# Altium footprint library SULLINS_SBH11-PBPC-D20-RA-BK.PcbLib: 1 footprints
Each footprint in its own frame and in the unit in brackets; x right, y up, seen from the top. Pads: shape width x height; smd on the part's side, far side on the other; paste and mask are expansions set on the pad; w line width, h text height; cw(c..) or ccw(c..) is an arc to the next point about the centre after c.
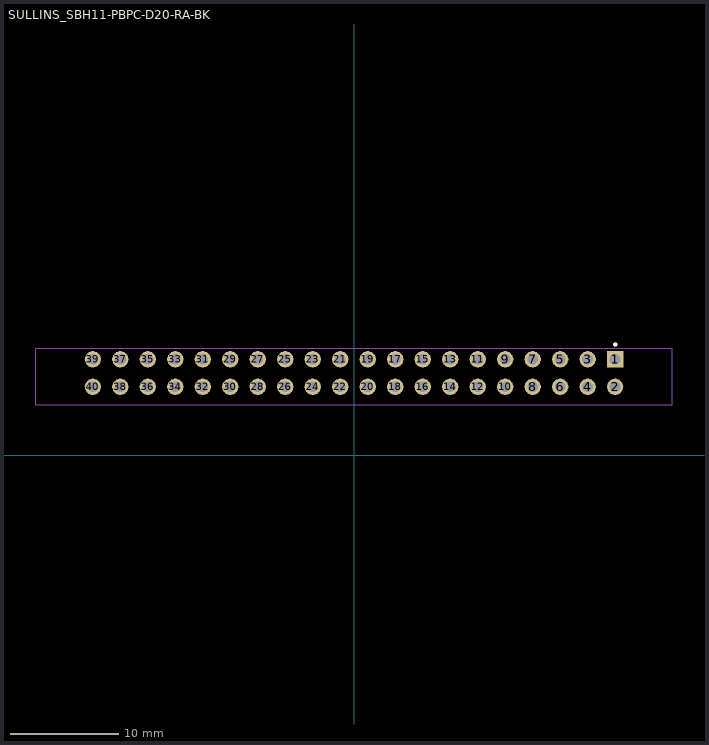
[diagram p0: the footprint, top view; thin cyan lines are the x and y axes]

## SULLINS_SBH11-PBPC-D20-RA-BK [mm]
height 9.1
pads (40):
  rect 1.508x1.508 / inner round 1.508 / far side rect 1.508x1.508 hole 1: 1(24.13,8.88)
  round 1.508 hole 1: 2(24.13,6.34) 3(21.59,8.88) 4(21.59,6.34) 5(19.05,8.88) 6(19.05,6.34) 7(16.51,8.88) 8(16.51,6.34) 9(13.97,8.88) 10(13.97,6.34) 11(11.43,8.88) 12(11.43,6.34) 13(8.89,8.88) 14(8.89,6.34) 15(6.35,8.88) 16(6.35,6.34) 17(3.81,8.88) 18(3.81,6.34) 19(1.27,8.88) 20(1.27,6.34) 21(-1.27,8.88) 22(-1.27,6.34) 23(-3.81,8.88) 24(-3.81,6.34) 25(-6.35,8.88) 26(-6.35,6.34) 27(-8.89,8.88) 28(-8.89,6.34) 29(-11.43,8.88) 30(-11.43,6.34) 31(-13.97,8.88) 32(-13.97,6.34) 33(-16.51,8.88) 34(-16.51,6.34) 35(-19.05,8.88) 36(-19.05,6.34) 37(-21.59,8.88) 38(-21.59,6.34) 39(-24.13,8.88) 40(-24.13,6.34)
Top Overlay:
  circle w0.2: c24.13,10.25 r0.1
Mechanical 13:
  circle w0.2: c24.13,10.25 r0.1
Mechanical 15:
  lines w0.05: -29.4,4.699 29.4,4.699 29.4,9.884 -29.4,9.884 -29.4,4.699